# EAGLE library part MSP430FR2433-VQFN (library BusinessCard)
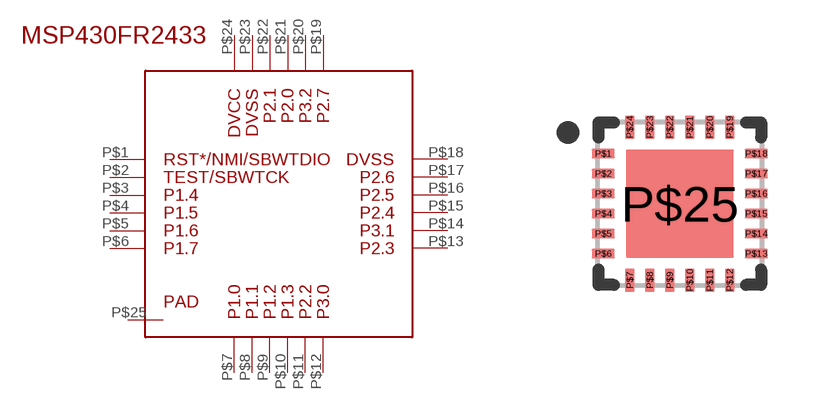
[diagram p0: symbol with the pads of VQFN-24; footprint VQFN-24]

Designator prefix -

## MSP430FR2433-VQFN  [VQFN-24]
P$1  P$1
P$2  P$2
P$3  P$3
P$4  P$4
P$5  P$5
P$6  P$6
P$7  P$7
P$8  P$8
P$9  P$9
P$10  P$10
P$11  P$11
P$12  P$12
P$13  P$13
P$14  P$14
P$15  P$15
P$16  P$16
P$17  P$17
P$18  P$18
P$19  P$19
P$20  P$20
P$21  P$21
P$22  P$22
P$23  P$23
P$24  P$24
P$25  P$25

## Footprint VQFN-24 (pad centres in mm)
smd 0.58 x 0.24: P$1 -1.913,1.25; P$2 -1.913,0.75; P$3 -1.913,0.25; P$4 -1.913,-0.25; P$5 -1.913,-0.75; P$6 -1.913,-1.25; P$13 1.913,-1.25; P$14 1.913,-0.75; P$15 1.913,-0.25; P$16 1.913,0.25; P$17 1.913,0.75; P$18 1.913,1.25
smd 0.24 x 0.58: P$7 -1.25,-1.913; P$8 -0.75,-1.913; P$9 -0.25,-1.913; P$10 0.25,-1.913; P$11 0.75,-1.913; P$12 1.25,-1.913; P$19 1.25,1.913; P$20 0.75,1.913; P$21 0.25,1.913; P$22 -0.25,1.913; P$23 -0.75,1.913; P$24 -1.25,1.913
smd 2.7 x 2.7: P$25 0,0